# Altium schematic symbol library Connector-USB.SchLib: 16 symbols
Pins are listed as number, name and electrical type; pins without a type are passive.

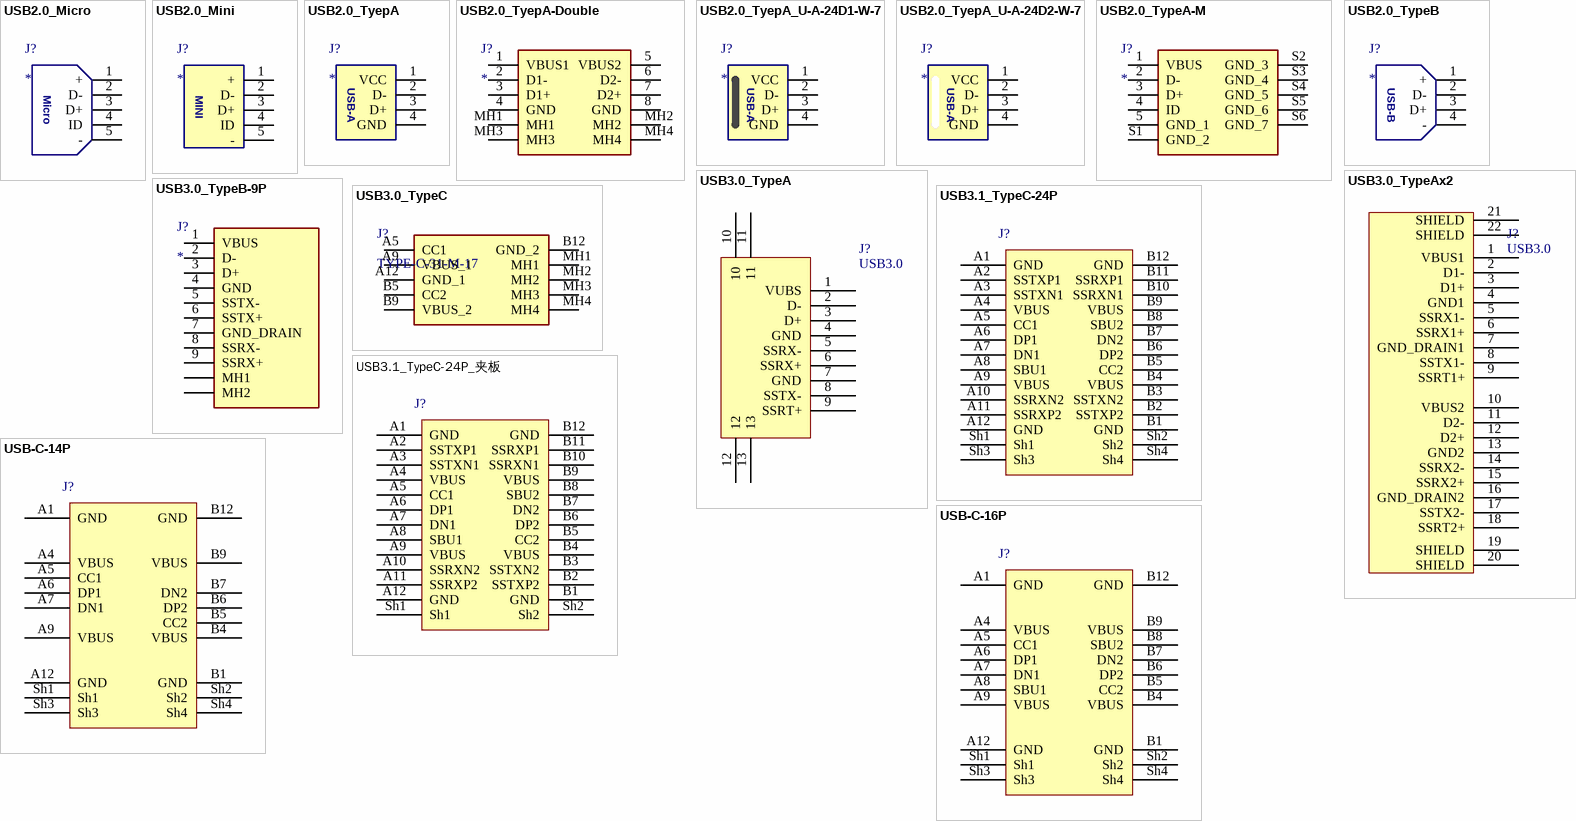
[diagram p0: symbols USB2.0_Micro to USB-C-16P]

## USB2.0_Micro
designator J?
MicroUSB 2.0连接座; Manufacturer_Name: *; Manufacturer_Part_Number: *
footprint USB-MICRO_A
footprint USB-MICRO_D
footprint USB-micro_B
footprint USB-micro_C
footprint USB-MICRO-SMD_U-E-051N-4BH21-F1B (MicroUSB 母座立贴)
footprint USB-MICRO-SMD_MICRO-21-P2-T3
footprint USB-MICRO-U-F-M5DD-Y-1 (U-F-M5DD-Y-1_HRO)
pins: 1 +, 2 D-, 3 D+, 4 ID, 5 -
text: Micro

## USB2.0_Mini
designator J?
Mini USB2.0 连接座; Manufacturer_Name: *; Manufacturer_Part_Number: *
footprint USB-MINI-A
pins: 1 +, 2 D-, 3 D+, 4 ID, 5 -
text: MINI

## USB2.0_TyepA
designator J?
USB2.0 A型母座; Manufacturer_Name: *; Manufacturer_Part_Number: *
footprint USB-A/S_A
footprint USB-A/S_B
footprint USB-A/S_C - EDGE (904-131A2032S10100 (精拓金))
footprint USB-A/S_D_W (SHOU HAN(首韩)     AF 180°ZJB13.7)
footprint USB-A/S_E
footprint USB-A/S_F
footprint USB_A/P_A
footprint USB_A/P_B
footprint USB_A/F-SMT-10 (USB A/F SMT 短体后两脚无边)
footprint USB_A/F-T/HSMT (USB A/F T/H SMT)
footprint USB_A/F-SMT (U-A-24SS-Y-1)
footprint USB-A/S_F_E (USB-265-BRY)
footprint USB-A/S_F - U-A-24D2-W-7 (U-A-24D2-W-7 & HRO 无卷边  白胶)
footprint USB-A/S_F - U-A-24D1-W-7 (U-A-24D1-W-7 & HRO 无卷边  黑胶)
footprint USB-A/S_F - Edge (906-252A1012D10200（精拓金）)
footprint USB-A/S_C - U-A-24SS-Y-1 (U-A-24SS-Y-1 (韩国韩荣))
footprint USB-A/S_S-908-351A2021S10110 (精拓金  908-351A2021S10110)
footprint USB-A/S_S-908-171A1011D10100 (精拓金  908-171A1011D10100)
footprint USB-A/S_S-10.0 QHHTZB6.3 (SHOU HAN(首韩)  10.0 QHHTZB6.3)
footprint USB-A/S_D_B (精拓金  商品型号    916-252A1022Y10210)
pins: 1 VCC, 2 D-, 3 D+, 4 GND

## USB2.0_TyepA-Double
designator J?
USB A/F 双层 USBConnector; Manufacturer_Name: ATOM; Manufacturer_Part_Number: USB304FA-A2009307
footprint USB304FAA2009307
pins: 1 VBUS1, 2 D1-, 3 D1+, 4 GND, 5 VBUS2, 6 D2-, 7 D2+, 8 GND, MH1, MH2, MH3, MH4

## USB2.0_TyepA_U-A-24D1-W-7
designator J?
USB2.0 A型母座（短体 无卷边 黑胶）; Manufacturer_Name: 韩国韩荣; Manufacturer_Part_Number: U-A-24D1-W-7; Manufacturer_Name_1: SHOU HAN(首韩); Manufacturer_Part_Number_1: AF 14.0 CC-T; LCSC: C530635
footprint USB-A/S_F - U-A-24D1-W-7 (U-A-24D1-W-7 & HRO 无卷边  黑胶)
pins: 1 VCC, 2 D-, 3 D+, 4 GND

## USB2.0_TyepA_U-A-24D2-W-7
designator J?
USB2.0 A型母座（短体 无卷边 白胶）; Manufacturer_Name: 韩国韩荣; Manufacturer_Part_Number: U-A-24D2-W-7; Manufacturer_Name_1: XUNPU(讯普); Manufacturer_Part_Number_1: USB-265-BRW; LCSC: C530637
footprint USB-A/S_F - U-A-24D2-W-7 (U-A-24D2-W-7 & HRO 无卷边  白胶)
pins: 1 VCC, 2 D-, 3 D+, 4 GND

## USB2.0_TypeA-M
designator J?
Connector 直插USB 公头; Manufacturer_Name: GLOBAL CONNECTOR TECHNOLOGY; Manufacturer_Part_Number: USB3150-30-130-A
footprint USB315030130A
pins: 1 VBUS, 2 D-, 3 D+, 4 ID, 5 GND_1, S1 GND_2, S2 GND_3, S3 GND_4, S4 GND_5, S5 GND_6, S6 GND_7

## USB2.0_TypeB
designator J?
USB2.0 B型母座; Manufacturer_Name: *; Manufacturer_Part_Number: *
footprint USB-B/S_A
pins: 1 +, 2 D-, 3 D+, 4 -

## USB3.0_TypeA
designator J?, comment USB3.0
USB3.0 A型连接座; Manufacturer_Name: *; Manufacturer_Part_Number: *
footprint USB3.0 AF
pins: 1 VUBS, 2 D-, 3 D+, 4 GND, 5 SSRX-, 6 SSRX+, 7 GND, 8 SSTX-, 9 SSRT+, 10, 11, 12, 13

## USB3.0_TypeAx2
designator J?, comment USB3.0
USB3.0 双层 A型连接座; Manufacturer_Name: *; Manufacturer_Part_Number: *
footprint USB3.0_USB-303WSD-BRY (XUNPU_USB-303WSD-BRY)
pins: 1 VBUS1, 2 D1-, 3 D1+, 4 GND1, 5 SSRX1-, 6 SSRX1+, 7 GND_DRAIN1, 8 SSTX1-, 9 SSRT1+, 10 VBUS2, 11 D2-, 12 D2+, 13 GND2, 14 SSRX2-, 15 SSRX2+, 16 GND_DRAIN2, 17 SSTX2-, 18 SSRT2+, 19 SHIELD, 20 SHIELD, 21 SHIELD, 22 SHIELD

## USB3.0_TypeB-9P
designator J?
USB3.0 连接座; Manufacturer_Name: Pulse; Manufacturer_Part_Number: E8199-030-01
footprint USB3.0_B_90 (USB3.0 B型母座 蓝色 铜壳 弯脚 90度)
pins: 1 VBUS, 2 D-, 3 D+, 4 GND, 5 SSTX-, 6 SSTX+, 7 GND_DRAIN, 8 SSRX-, 9 SSRX+, MH1, MH2

## USB3.0_TypeC
designator J?, comment TYPE-C-31-M-17
USB-TypeC座子; Manufacturer_Name: Korean Hroparts Elec; Manufacturer_Part_Number: TYPE-C-31-M-17
footprint USB3.0_TYPEC31M17
pins: A5 CC1, A9 VBUS_1, A12 GND_1, B5 CC2, B9 VBUS_2, B12 GND_2, MH1, MH2, MH3, MH4

## USB3.1_TypeC-24P
designator J?
USB-TypeC 24P座子; Manufacturer_Name: *; Manufacturer_Part_Number: *
footprint USB-TypeC
pins: A1 GND, A2 SSTXP1, A3 SSTXN1, A4 VBUS, A5 CC1, A6 DP1, A7 DN1, A8 SBU1, A9 VBUS, A10 SSRXN2, A11 SSRXP2, A12 GND, B1 GND, B2 SSTXP2, B3 SSTXN2, B4 VBUS, B5 CC2, B6 DP2, B7 DN2, B8 SBU2, B9 VBUS, B10 SSRXN1, B11 SSRXP1, B12 GND, Sh1, Sh2, Sh3, Sh4

## USB3.1_TypeC-24P_夹板
designator J?
USB-TypeC 24P座子; Manufacturer_Name: *; Manufacturer_Part_Number: *
footprint USB-C-SMD_TYPE-C-31-G-01
pins: A1 GND, A2 SSTXP1, A3 SSTXN1, A4 VBUS, A5 CC1, A6 DP1, A7 DN1, A8 SBU1, A9 VBUS, A10 SSRXN2, A11 SSRXP2, A12 GND, B1 GND, B2 SSTXP2, B3 SSTXN2, B4 VBUS, B5 CC2, B6 DP2, B7 DN2, B8 SBU2, B9 VBUS, B10 SSRXN1, B11 SSRXP1, B12 GND, Sh1, Sh2

## USB-C-14P
designator J?
USB-TypeC 14P座子; Manufacturer_Name: 韩国韩荣; Manufacturer_Part_Number: TYPE-C-31-M-19
footprint USB-C-TH_TYPE-C-31-M-19
pins: A1 GND, A4 VBUS, A5 CC1, A6 DP1, A7 DN1, A9 VBUS, A12 GND, B1 GND, B4 VBUS, B5 CC2, B6 DP2, B7 DN2, B9 VBUS, B12 GND, Sh1, Sh2, Sh3, Sh4

## USB-C-16P
designator J?
USB-TypeC 16P座子; Manufacturer_Name: *; Manufacturer_Part_Number: *
footprint USB-C_SMD-TYPE-C-31-M-12
pins: A1 GND, A4 VBUS, A5 CC1, A6 DP1, A7 DN1, A8 SBU1, A9 VBUS, A12 GND, B1 GND, B4 VBUS, B5 CC2, B6 DP2, B7 DN2, B8 SBU2, B9 VBUS, B12 GND, Sh1, Sh2, Sh3, Sh4